# Altium footprint library Triads.PcbLib: 7 footprints
Each footprint in its own frame and in the unit in brackets; x right, y up, seen from the top. Pads: shape width x height; smd on the part's side, far side on the other; paste and mask are expansions set on the pad; w line width, h text height; cw(c..) or ccw(c..) is an arc to the next point about the centre after c.
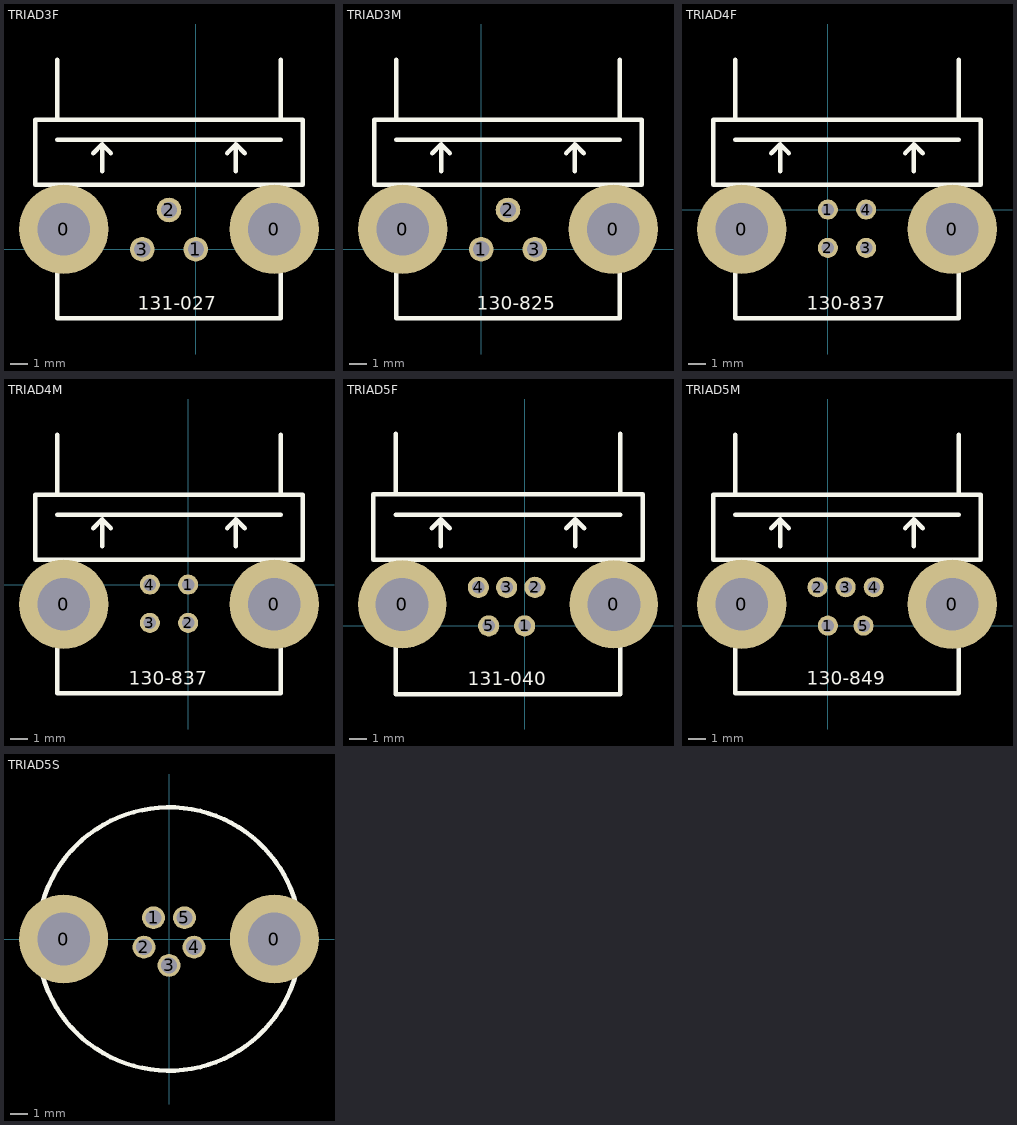
[diagram p0: the footprints below, top view; thin cyan lines are the x and y axes]

## TRIAD3F [mil]
height 472.44
pads (5):
  round 200 hole 118: 0(-296,45) 0(176,45)
  round 55 hole 36: 1(0,0) 2(-60,88) 3(-120,0)
TopOverlay:
  lines w10: -310,145 -310,-155 -110,-155 -10,-155 190,-155 190,145 ; -310,245 190,245 ; -310,290 -310,425 ; -230,215 -210,235 ; -210,175 -210,235 ; -190,215 -210,235 ; 70,215 90,235 ; 90,175 90,235 ; 110,215 90,235 ; 190,290 190,425 ; -360,145 240,145 240,290 -360,290 -360,145
  text "131-027" at -130,-135 h30

## TRIAD3M [mil]
height 12
pads (5):
  round 200 hole 118: 0(-176,45) 0(296,45)
  round 55 hole 36: 1(0,0) 2(60,88) 3(120,0)
TopOverlay:
  lines w10: -190,145 -190,-155 10,-155 110,-155 310,-155 310,145 ; -190,245 310,245 ; -190,290 -190,425 ; -110,215 -90,235 ; -90,175 -90,235 ; -70,215 -90,235 ; 190,215 210,235 ; 210,175 210,235 ; 230,215 210,235 ; 310,290 310,425 ; -240,145 360,145 360,290 -240,290 -240,145
  text "130-825" at -10,-135 h30

## TRIAD4F [mil]
height 472.44
pads (6):
  round 200 hole 118: 0(-193,-44) 0(279,-44)
  round 45 hole 28: 1(0,0) 2(0,-86) 3(86,-86) 4(86,0)
TopOverlay:
  lines w10: -207,56 -207,-244 -7,-244 93,-244 293,-244 293,56 ; -207,156 293,156 ; -207,201 -207,336 ; -127,126 -107,146 ; -107,86 -107,146 ; -87,126 -107,146 ; 173,126 193,146 ; 193,86 193,146 ; 213,126 193,146 ; 293,201 293,336 ; -257,56 -257,201 343,201 343,56 -257,56
  text "130-837" at -47,-224 h30

## TRIAD4M [mil]
height 472.44
pads (6):
  round 200 hole 118: 0(-279,-44) 0(193,-44)
  round 45 hole 28: 1(0,0) 2(0,-86) 3(-86,-86) 4(-86,0)
TopOverlay:
  lines w10: -293,56 -293,-244 -93,-244 7,-244 207,-244 207,56 ; -293,156 207,156 ; -293,201 -293,336 ; -213,126 -193,146 ; -193,86 -193,146 ; -173,126 -193,146 ; 87,126 107,146 ; 107,86 107,146 ; 127,126 107,146 ; 207,201 207,336 ; -343,56 -343,201 257,201 257,56 -343,56
  text "130-837" at -133,-224 h30

## TRIAD5F [mm]
height 12
pads (7):
  round 5 hole 3: 0(-6.934,1.219) 0(5.055,1.219)
  round 1.2 hole 0.7: 1(0,0) 2(0.584,2.184) 3(-1.016,2.184) 4(-2.616,2.184) 5(-2.032,0)
TopOverlay:
  lines w0.254: -7.29,3.759 -7.29,-3.861 -2.21,-3.861 0.33,-3.861 5.41,-3.861 5.41,3.759 ; -7.29,6.299 5.41,6.299 ; -7.29,7.442 -7.29,10.871 ; -5.258,5.537 -4.75,6.045 ; -4.75,4.521 -4.75,6.045 ; -4.242,5.537 -4.75,6.045 ; 2.362,5.537 2.87,6.045 ; 2.87,4.521 2.87,6.045 ; 3.378,5.537 2.87,6.045 ; 5.41,7.442 5.41,10.871 ; -8.56,3.759 6.68,3.759 6.68,7.442 -8.56,7.442 -8.56,3.759
  text "131-040" at -3.226,-3.353 h0.76

## TRIAD5M [mil]
height 472.44
pads (7):
  round 200 hole 118: 0(-193,48) 0(279,48)
  round 45 hole 28: 1(0,0) 2(-23,86) 3(40,86) 4(103,86) 5(80,0)
TopOverlay:
  lines w10: -207,148 -207,-152 -7,-152 93,-152 293,-152 293,148 ; -207,248 293,248 ; -207,293 -207,428 ; -127,218 -107,238 ; -107,178 -107,238 ; -87,218 -107,238 ; 173,218 193,238 ; 193,178 193,238 ; 213,218 193,238 ; 293,293 293,428 ; -257,148 -257,293 343,293 343,148 -257,148
  text "130-849" at -47,-132 h30

## TRIAD5S [mm]
pads (7):
  round 5.08 hole 2.997: 0(-6,0) 0(6,0)
  round 1.3 hole 0.9: 1(-0.882,1.214) 2(-1.427,-0.463) 3(0,-1.5) 4(1.426,-0.463) 5(0.882,1.214)
TopOverlay:
  circle w0.254: c0,0 r7.5